# EAGLE library part HV826MG (library IC)
HV826MG Small EL backlight driver for the CFAX 128x64 graphical display.
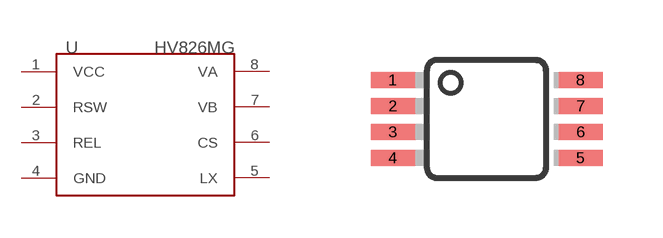
[diagram p32: symbol with the pads of MSOP8; footprint MSOP8]

Designator prefix U

## HV826MG-MSOP8  [MSOP8]
1  VCC
2  RSW
3  REL  pwr
4  GND  pwr
5  LX
6  CS
7  VB
8  VA

## Footprint MSOP8 (pad centres in mm)
8M, 8-Lead, 0.118" Wide, Miniature Small Outline Package MSOP 8M-Package doc1097.pdf
smd 1.1 x 0.4: 1 -2.477,0.975; 2 -2.477,0.325; 3 -2.477,-0.325; 4 -2.477,-0.975; 5 2.223,-0.975; 6 2.223,-0.325; 7 2.223,0.325; 8 2.223,0.975